# EAGLE library part RFID-TLB11 (library ArdDisp)
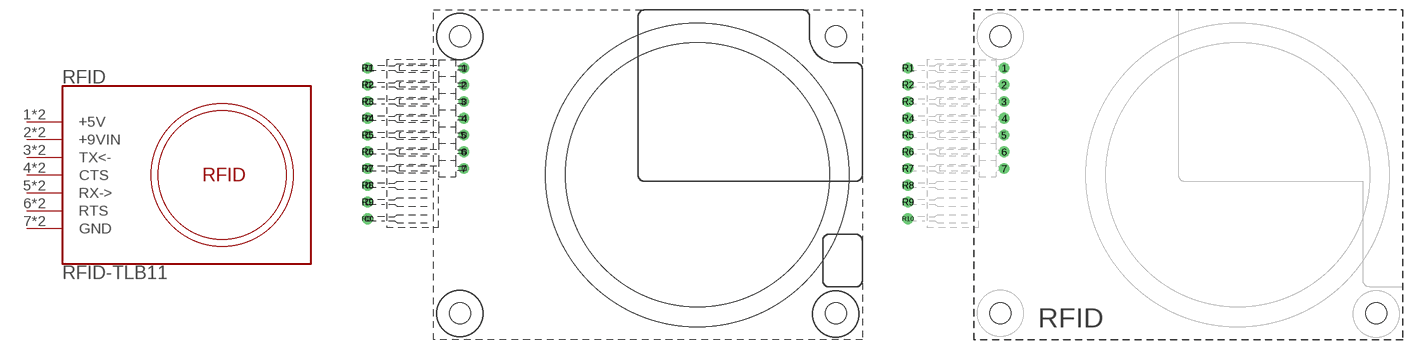
[diagram p7: symbol with the pads of RFID-TLB11; footprints RFID-TLB11, RFID-TLB11B]

Designator prefix RFID

## RFID-TLB11-  [RFID-TLB11]
1  +5V  in
2  +9VIN
3  TX<-  out
4  CTS
5  RX->  in
6  RTS
7  GND  in
R1  +5V  in
R2  +9VIN
R3  TX<-  out
R4  CTS
R5  RX->  in
R6  RTS
R7  GND  in

## RFID-TLB11B  [RFID-TLB11B]
Pads as for RFID-TLB11

## Footprint RFID-TLB11 (pad centres in mm)
pady v 12.5mil rozmery v mm
drill 1 pad 1.626: 1 0,0; 2 0,-2.54; 3 0,-5.08; 4 0,-7.62; 5 0,-10.16; 6 0,-12.7; 7 0,-15.24; R1 -14.605,0; R2 -14.605,-2.54; R3 -14.605,-5.08; R4 -14.605,-7.62; R5 -14.605,-10.16; R6 -14.605,-12.7; R7 -14.605,-15.24; R8 -14.605,-17.78; R9 -14.605,-20.32; R10 -14.605,-22.86
hole 3.2 at 56.4,4.8
hole 3.2 at 56.4,-37.2
hole 3.2 at -0.6,-37.2
hole 3.2 at -0.6,4.8

## Footprint RFID-TLB11B (pad centres in mm)
pady v 12.5mil rozmery v mm
drill 1 pad 1.626: 1 0,0; 2 0,-2.54; 3 0,-5.08; 4 0,-7.62; 5 0,-10.16; 6 0,-12.7; 7 0,-15.24; R1 -14.605,0; R2 -14.605,-2.54; R3 -14.605,-5.08; R4 -14.605,-7.62; R5 -14.605,-10.16; R6 -14.605,-12.7; R7 -14.605,-15.24; R8 -14.605,-17.78; R9 -14.605,-20.32; R10 -14.605,-22.86
hole 3.2 at 56.4,-37.2
hole 3.2 at -0.6,-37.2
hole 3.2 at -0.6,4.8